# Altium footprint library SOT.PcbLib: 39 footprints (part 1 of 3)
Each footprint in its own frame and in the unit in brackets; x right, y up, seen from the top. Pads: shape width x height; smd on the part's side, far side on the other; paste and mask are expansions set on the pad; w line width, h text height; cw(c..) or ccw(c..) is an arc to the next point about the centre after c.
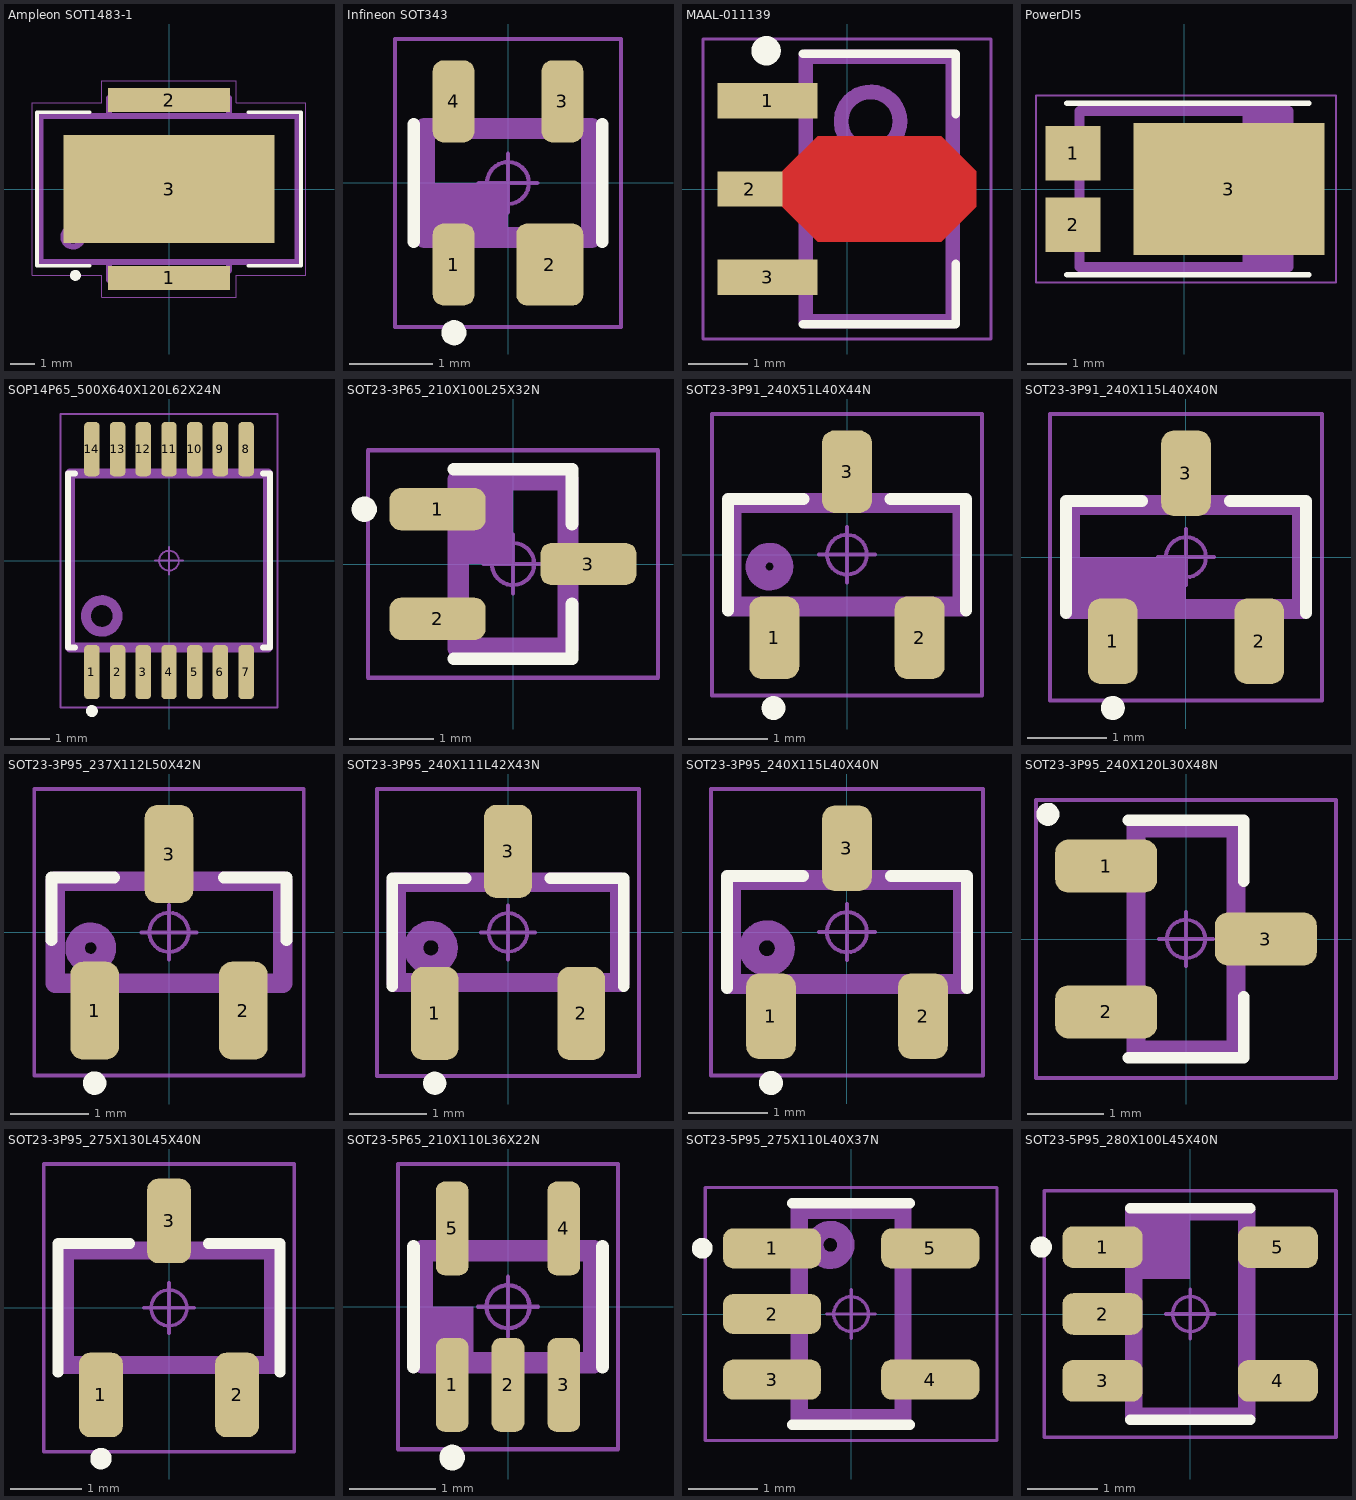
[diagram p0: the footprints below, top view; thin cyan lines are the x and y axes]

## Ampleon SOT1483-1 [mm] "plastic; heatsink small outline package; 2 leads"
height 2.1
pads (3):
  rect 5.1x1 smd: 1(0,-3.7) 2(0,3.7)
  rect 8.8x4.5 smd: 3(0,0)
Top Overlay:
  circle w0.25: c-3.9,-3.6 r0.1
  lines w0.15: -3.3,-3.2 -5.5,-3.2 -5.5,3.2 -3.3,3.2 ; 3.3,-3.2 5.5,-3.2 5.5,3.2 3.3,3.2
Top Assembly:
  circle w0.25: c-4,-2 r0.4
  lines w0.25: -2.5,-3.1 -2.5,-3.8 2.1,-3.8 2.5,-3.4 2.5,-3.1 ; -2.5,3.1 -2.5,3.8 2.5,3.8 2.5,3.1 ; -5.35,-3.05 5.35,-3.05 5.35,3.05 -5.35,3.05 -5.35,-3.05
  text ".Designator" at -3.378,-0.339 h1.5
Top Courtyard:
  circle w0.05: c0,0 r0.25
  lines w0.05: -0.35,0 0.35,0 ; 0,-0.35 0,0.35 ; -5.7,-3.6 -2.8,-3.6 -2.8,-4.5 2.8,-4.5 2.8,-3.6 5.7,-3.6 5.7,3.6 2.8,3.6 2.8,4.5 -2.8,4.5 -2.8,3.6 -5.7,3.6 -5.7,-3.6
3D body "BLP9G0722-20GZ--3DModel-STEP-269445.STEP": height 2.08, standoff 0, extent -5.335,-4.065 5.335,4.065

## Infineon SOT343 [mm] "Small Outline Transistor (SOT143), 1.30 mm pitch; 4 pin, 2.00 mm L X 1.25 mm W X 1.00 mm H body"
height 1
pads (4):
  rrect52% 0.5x0.98 smd: 1(-0.65,-0.975) 3(0.65,0.975) 4(-0.65,0.975)
  rrect32% 0.8x0.98 smd: 2(0.5,-0.975)
Top Overlay:
  circle w0.15: c-0.646,-1.79 r0.075
  lines w0.15: -1.125,-0.7 -1.125,0.7 ; 1.125,-0.7 1.125,0.7
Top Assembly:
  rectangle: -1,-0.65 0,0
  lines w0.25: -1,-0.65 1,-0.65 1,0.65 -1,0.65 -1,-0.65
  text ".Designator" at -3.378,-0.339 h1.5
Top Courtyard:
  circle w0.05: c0,0 r0.25
  lines w0.05: -0.35,0 0.35,0 ; 0,-0.35 0,0.35 ; -1.35,-1.72 1.35,-1.72 1.35,1.72 -1.35,1.72 -1.35,-1.72
3D body "SOT343-4P130_210X100L25X30R.STEP": height 1, standoff 0, extent -1,-1.05 1,1.05

## MAAL-011139 [mm] "SOT89, 3-Leads, Body 4,50x2,50mm, Pitch 1,50mm, Lead Span 3,5mm, IPC Medium Density"
height 1.6
pads (3):
  rect 1.7x0.6 smd: 1(-1.35,1.5) 3(-1.35,-1.5)
  rect 1.1x0.6 smd: 2(-1.65,0)
Top Layer:
  region: -1.1,0.3 -0.5,0.9 1.6,0.9 2.2,0.3 2.2,-0.3 1.6,-0.9 -0.5,-0.9 -1.1,-0.3
Top Overlay:
  circle w0.25: c-1.375,2.35 r0.125
  lines w0.15: -0.75,-2.3 1.85,-2.3 1.85,-1.275 ; -0.75,2.3 1.85,2.3 1.85,1.275
Top Assembly:
  circle w0.25: c0.4,1.15 r0.5
  lines w0.25: -0.7,-2.25 -0.7,2.25 1.8,2.25 1.8,-2.25 -0.7,-2.25
  text ".Designator" at 0.261,2.078 h1.5
Top Courtyard:
  circle w0.05: c0.55,0 r0.25
  lines w0.05: 0.2,0 0.9,0 ; 0.55,-0.35 0.55,0.35 ; -2.45,-2.55 -2.45,2.55 2.45,2.55 2.45,-2.55 -2.45,-2.55
3D body "MAAL-011139.step": height 1.6, standoff 0, extent -2.5,-2.297 1.95,2.297

## PowerDI5 [mm] "Diodes Inc CASE PowerDI5"
height 1.1
pads (3):
  rect 1.4x1.4 smd: 1(-2.85,0.92) 2(-2.85,-0.92)
  rect 4.9x3.4 smd: 3(1.15,0)
Top Overlay:
  lines w0.15: -3,-2.2 3.2,-2.2 ; -3,2.2 3.2,2.2
Top Assembly:
  rectangle: 1.5,-2 2.685,2
  lines w0.25: -2.685,-2 2.685,-2 2.685,2 -2.685,2 -2.685,-2
  text ".Designator" at -2.3,-0.5 h1.5
Top Courtyard:
  circle w0.05: c0,0 r0.25
  lines w0.05: -0.35,0 0.35,0 ; 0,-0.35 0,0.35 ; -3.8,-2.4 3.9,-2.4 3.9,2.4 -3.8,2.4 -3.8,-2.4
3D body "Case PowerDI5.STEP": height 1.15, standoff 0, extent -3.255,-2.002 3.255,2.002

## SOP14P65_500X640X120L62X24N [mm] "Small Outline Pkg (SOP), 0.65 mm pitch; 14 pin, 5.00 mm L X 4.35 mm W X 1.20 mm H body"
height 1.2
pads (14):
  rrect51% 0.39x1.37 smd: 1(-1.95,-2.82) 2(-1.3,-2.82) 3(-0.65,-2.82) 4(0,-2.82) 5(0.65,-2.82) 6(1.3,-2.82) 7(1.95,-2.82) 8(1.95,2.82) 9(1.3,2.82) 10(0.65,2.82) 11(0,2.82) 12(-0.65,2.82) 13(-1.3,2.82) 14(-1.95,2.82)
Top Overlay:
  circle w0.15: c-1.95,-3.805 r0.075
  lines w0.15: -2.375,-2.2 -2.55,-2.2 -2.55,2.2 -2.375,2.2 ; 2.375,-2.2 2.55,-2.2 2.55,2.2 2.375,2.2
Top Assembly:
  circle w0.25: c-1.7,-1.4 r0.4
  lines w0.25: -2.5,-2.2 2.5,-2.2 2.5,2.2 -2.5,2.2 -2.5,-2.2
  text ".Designator" at -3.378,-0.339 h1.5
Top Courtyard:
  circle w0.05: c0,0 r0.25
  lines w0.05: -0.35,0 0.35,0 ; 0,-0.35 0,0.35 ; -2.75,-3.71 2.75,-3.71 2.75,3.71 -2.75,3.71 -2.75,-3.71
3D body "SOP14P65_500X640X120L62X24.STEP": height 1.2, standoff 0, extent -2.5,-3.2 2.5,3.2

## SOT23-3P65_210X100L25X32N [mm] "Small Outline Transistor (SOT23), 0.65 mm pitch; 3 pin, 2.00 mm L X 1.25 mm W X 1.00 mm H body"
height 1
pads (3):
  rrect52% 1.14x0.5 smd: 1(-0.895,0.65) 2(-0.895,-0.65) 3(0.895,0)
Top Overlay:
  circle w0.15: c-1.765,0.65 r0.075
  lines w0.15: -0.7,-1.125 0.7,-1.125 0.7,-0.475 ; -0.7,1.125 0.7,1.125 0.7,0.475
Top Assembly:
  rectangle: -0.65,0 0,1
  lines w0.25: -0.65,-1 0.65,-1 0.65,1 -0.65,1 -0.65,-1
  text ".Designator" at 1.261,3.478 h1.5
Top Courtyard:
  circle w0.05: c0,0 r0.25
  lines w0.05: -0.35,0 0.35,0 ; 0,-0.35 0,0.35 ; -1.72,-1.35 1.72,-1.35 1.72,1.35 -1.72,1.35 -1.72,-1.35
3D body "SOT23-3P65_210X100L25X32.STEP": height 1, standoff 0, extent -1.05,-1 1.05,1

## SOT23-3P91_240X51L40X44N [mm] "Small Outline Transistor (SOT23), 0.915 mm pitch; 3 pin, 2.90 mm L X 1.30 mm W X 0.51 mm H body"
height 0.51
pads (3):
  rrect51% 0.63x1.04 smd: 1(-0.915,-1.045) 2(0.915,-1.045) 3(0,1.045)
Top Overlay:
  circle w0.15: c-0.925,-1.93 r0.075
  lines w0.15: -1.5,-0.7 -1.5,0.7 -0.55,0.7 ; 0.55,0.7 1.5,0.7 1.5,-0.7
Top Assembly:
  circle w0.25: c-0.975,-0.15 r0.175
  lines w0.25: -1.45,-0.65 -1.45,0.65 1.45,0.65 1.45,-0.65 -1.45,-0.65
  text ".Designator" at 0,0 h1.5
Top Courtyard:
  circle w0.05: c0,0 r0.25
  lines w0.05: -0.35,0 0.35,0 ; 0,-0.35 0,0.35 ; -1.7,-1.77 -1.7,1.77 1.7,1.77 1.7,-1.77 -1.7,-1.77
3D body "SOT23-3P91_240X51L40X44.STEP": height 0.51, standoff 0, extent -1.45,-1.2 1.45,1.2

## SOT23-3P91_240X115L40X40N [mm] "Small Outline Transistor (SOT23), 0.915 mm pitch; 3 pin, 2.90 mm L X 1.30 mm W X 1.15 mm H body"
height 1.15
pads (3):
  rrect52% 0.62x1.07 smd: 1(-0.915,-1.05) 2(0.915,-1.05) 3(0,1.05)
Top Overlay:
  circle w0.15: c-0.915,-1.885 r0.075
  lines w0.15: -1.5,-0.7 -1.5,0.7 -0.55,0.7 ; 0.55,0.7 1.5,0.7 1.5,-0.7
Top Assembly:
  rectangle: -1.45,-0.65 0,0
  lines w0.25: -1.45,-0.65 -1.45,0.65 1.45,0.65 1.45,-0.65 -1.45,-0.65
  text ".Designator" at -3.378,1.161 h1.5
Top Courtyard:
  circle w0.05: c0,0 r0.25
  lines w0.05: -0.35,0 0.35,0 ; 0,-0.35 0,0.35 ; -1.7,-1.79 -1.7,1.79 1.7,1.79 1.7,-1.79 -1.7,-1.79
3D body "SOT23-3P91_240X115L40X40.STEP": height 1.15, standoff 0, extent -1.45,-1.2 1.45,1.2

## SOT23-3P95_237X112L50X42N [mm] "Small Outline Transistor (SOT23), 0.95 mm pitch; 3 pin, 2.92 mm L X 1.30 mm W X 1.12 mm H body"
height 1.12
pads (3):
  rrect52% 0.62x1.25 smd: 1(-0.95,-1) 2(0.95,-1) 3(0,1)
Top Overlay:
  circle w0.15: c-0.95,-1.925 r0.075
  lines w0.15: -1.5,-0.1 -1.5,0.7 -0.7,0.7 ; 0.7,0.7 1.5,0.7 1.5,-0.1
Top Assembly:
  circle w0.25: c-1,-0.2 r0.2
  lines w0.25: -1.45,-0.65 1.45,-0.65 1.45,0.65 -1.45,0.65 -1.45,-0.65
  text ".Designator" at -3.378,1.161 h1.5
Top Courtyard:
  circle w0.05: c0,0 r0.25
  lines w0.05: -0.35,0 0.35,0 ; 0,-0.35 0,0.35 ; -1.72,-1.83 1.72,-1.83 1.72,1.83 -1.72,1.83 -1.72,-1.83
3D body "SOT23-3P95_237X112L50X42.STEP": height 1.12, standoff 0, extent -1.46,-1.185 1.46,1.185

## SOT23-3P95_240X111L42X43N [mm] "Small Outline Transistor (SOT23), 0.95 mm pitch; 3 pin, 2.90 mm L X 1.30 mm W X 1.11 mm H body"
height 1.11
pads (3):
  rrect52% 0.62x1.21 smd: 1(-0.95,-1.05) 2(0.95,-1.05) 3(0,1.05)
Top Overlay:
  circle w0.15: c-0.95,-1.955 r0.075
  lines w0.15: -1.5,-0.7 -1.5,0.7 -0.55,0.7 ; 0.55,0.7 1.5,0.7 1.5,-0.7
Top Assembly:
  circle w0.25: c-1,-0.2 r0.224
  lines w0.25: -1.45,-0.65 -1.45,0.65 1.45,0.65 1.45,-0.65 -1.45,-0.65
  text ".Designator" at -3.378,1.161 h1.5
Top Courtyard:
  circle w0.05: c0,0 r0.25
  lines w0.05: -0.35,0 0.35,0 ; 0,-0.35 0,0.35 ; -1.7,-1.86 -1.7,1.86 1.7,1.86 1.7,-1.86 -1.7,-1.86
3D body "SOT23-3P95_240X111L42X43.STEP": height 1.11, standoff 0, extent -1.45,-1.2 1.45,1.2

## SOT23-3P95_240X115L40X40N [mm] "Small Outline Transistor (SOT23), 0.95 mm pitch; 3 pin, 2.90 mm L X 1.30 mm W X 1.15 mm H body"
height 1.15
pads (3):
  rrect52% 0.62x1.07 smd: 1(-0.95,-1.05) 2(0.95,-1.05) 3(0,1.05)
Top Overlay:
  circle w0.15: c-0.95,-1.885 r0.075
  lines w0.15: -1.5,-0.7 -1.5,0.7 -0.55,0.7 ; 0.55,0.7 1.5,0.7 1.5,-0.7
Top Assembly:
  circle w0.25: c-1,-0.2 r0.224
  lines w0.25: -1.45,-0.65 -1.45,0.65 1.45,0.65 1.45,-0.65 -1.45,-0.65
  text ".Designator" at -3.378,1.261 h1.5
Top Courtyard:
  circle w0.05: c0,0 r0.25
  lines w0.05: -0.35,0 0.35,0 ; 0,-0.35 0,0.35 ; -1.7,-1.79 -1.7,1.79 1.7,1.79 1.7,-1.79 -1.7,-1.79
3D body "SOT23-3P95_240X115L40X40.STEP": height 1.15, standoff 0, extent -1.45,-1.2 1.45,1.2

## SOT23-3P95_240X120L30X48N [mm] "Small Outline Transistor (SOT23), 0.95 mm pitch; 3 pin, 2.92 mm L X 1.325 mm W X 1.20 mm H body"
height 1.2
pads (3):
  rrect49% 1.33x0.69 smd: 1(-1.04,0.95) 2(-1.04,-0.95) 3(1.04,0)
Top Overlay:
  circle w0.15: c-1.8,1.625 r0.075
  lines w0.15: -0.75,-1.55 0.75,-1.55 0.75,-0.75 ; -0.75,1.55 0.75,1.55 0.75,0.75
Top Assembly:
  lines w0.25: -0.65,-1.45 -0.65,1.45 0.65,1.45 0.65,-1.45 -0.65,-1.45
  text ".Designator" at -2.704,-0.271 h1.2
Top Courtyard:
  circle w0.05: c0,0 r0.25
  lines w0.05: -0.35,0 0.35,0 ; 0,-0.35 0,0.35 ; -1.955,-1.81 1.955,-1.81 1.955,1.81 -1.955,1.81 -1.955,-1.81
3D body "SOT23-3P95_240X120L30X48.STEP": height 1.2, standoff 0, extent -1.2,-1.46 1.2,1.46

## SOT23-3P95_275X130L45X40N [mm] "Small Outline Transistor (SOT23), 0.95 mm pitch; 3 pin, 2.90 mm L X 1.60 mm W X 1.30 mm H body"
height 1.3
pads (3):
  rrect49% 0.61x1.18 smd: 1(-0.95,-1.215) 2(0.95,-1.215) 3(0,1.215)
Top Overlay:
  circle w0.15: c-0.95,-2.105 r0.075
  lines w0.15: -1.55,-0.9 -1.55,0.9 -0.55,0.9 ; 0.55,0.9 1.55,0.9 1.55,-0.9
Top Assembly:
  lines w0.25: -1.45,-0.8 1.45,-0.8 1.45,0.8 -1.45,0.8 -1.45,-0.8
  text ".Designator" at 0,0 h1.2
Top Courtyard:
  circle w0.05: c0,0 r0.25
  lines w0.05: -0.35,0 0.35,0 ; 0,-0.35 0,0.35 ; -1.75,-2.01 1.75,-2.01 1.75,2.01 -1.75,2.01 -1.75,-2.01
3D body "SOT23-3P95_275X130L45X40.STEP": height 1.3, standoff 0, extent -1.45,-1.375 1.45,1.375

## SOT23-5P65_210X110L36X22N [mm] "Small Outline Transistor (SOT23), 0.65 mm pitch; 5 pin, 2.00 mm L X 1.25 mm W X 1.10 mm H body"
height 1.1
pads (5):
  rrect53% 0.38x1.09 smd: 1(-0.65,-0.91) 2(0,-0.91) 3(0.65,-0.91) 4(0.65,0.91) 5(-0.65,0.91)
Top Overlay:
  circle w0.15: c-0.65,-1.755 r0.075
  lines w0.15: -1.1,-0.7 -1.1,0.7 ; 1.1,-0.7 1.1,0.7
Top Assembly:
  rectangle: -1,-0.7 -0.4,0
  lines w0.25: -1,-0.65 1,-0.65 1,0.65 -1,0.65 -1,-0.65
  text ".Designator" at 0,0 h1.5
Top Courtyard:
  circle w0.05: c0,0 r0.25
  lines w0.05: -0.35,0 0.35,0 ; 0,-0.35 0,0.35 ; -1.28,-1.66 1.28,-1.66 1.28,1.66 -1.28,1.66 -1.28,-1.66
3D body "SOT23-5P65_210X110L36X22.STEP": height 1.1, standoff 0, extent -1,-1.05 1,1.05

## SOT23-5P95_275X110L40X37N [mm] "Small Outline Transistor (SOT23), 0.95 mm pitch; 5 pin, 3.00 mm L X 1.50 mm W X 1.10 mm H body"
height 1.1
pads (5):
  rrect52% 1.42x0.58 smd: 1(-1.145,0.95) 2(-1.145,0) 3(-1.145,-0.95) 4(1.145,-0.95) 5(1.145,0.95)
Top Overlay:
  circle w0.15: c-2.155,0.95 r0.075
  lines w0.15: -0.85,-1.6 0.85,-1.6 ; -0.85,1.6 0.85,1.6
Top Assembly:
  circle w0.25: c-0.3,1 r0.224
  lines w0.25: -0.75,-1.5 0.75,-1.5 0.75,1.5 -0.75,1.5 -0.75,-1.5
  text ".Designator" at -3.378,2.061 h1.5
Top Courtyard:
  circle w0.05: c0,0 r0.25
  lines w0.05: -0.35,0 0.35,0 ; 0,-0.35 0,0.35 ; -2.11,-1.83 2.11,-1.83 2.11,1.83 -2.11,1.83 -2.11,-1.83
3D body "SOT23-5P95_275X110L40X37.STEP": height 1.1, standoff 0, extent -1.375,-1.5 1.375,1.5

## SOT23-5P95_280X100L45X40N [mm] "Small Outline Transistor (SOT23), 0.95 mm pitch; 5 pin, 2.90 mm L X 1.60 mm W X 1.00 mm H body"
height 1
pads (5):
  rrect51% 1.14x0.59 smd: 1(-1.245,0.95) 2(-1.245,0) 3(-1.245,-0.95) 4(1.245,-0.95) 5(1.245,0.95)
Top Overlay:
  circle w0.15: c-2.115,0.95 r0.075
  lines w0.15: -0.85,-1.5 0.85,-1.5 ; -0.85,1.5 0.85,1.5
Top Assembly:
  rectangle: -0.8,0.5 0,1.45
  lines w0.25: -0.8,-1.45 0.8,-1.45 0.8,1.45 -0.8,1.45 -0.8,-1.45
  text ".Designator" at 0.339,-3.378 h1.5
Top Courtyard:
  circle w0.05: c0,0 r0.25
  lines w0.05: -0.35,0 0.35,0 ; 0,-0.35 0,0.35 ; -2.07,-1.75 2.07,-1.75 2.07,1.75 -2.07,1.75 -2.07,-1.75
3D body "SOT23-5P95_280X100L45X40.STEP": height 1, standoff 0, extent -1.4,-1.45 1.4,1.45